# Altium schematic symbol library PTC Resettable Fuses.SchLib: 1 symbol
Pins are listed as number, name and electrical type; pins without a type are passive.

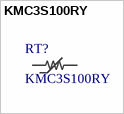
[diagram p0: symbol KMC3S100RY]

## KMC3S100RY
designator RT?
THERMISTOR PTC RESETTABLE FUSE 1206 1A 6V SMT; Manufacturer: THINKING; Designed: Ferdi; Time - Trip (Sec): 300ms; Current (Max): 100A; Current - Trip: 1.8A; Resistance (Max): 210m Ohms; Resistance (Min): 65m Ohms; Package / Case: 1206 (3216 Metric); Mounting Type: SMT; Packaging: TAPE&REEL; Rohs: ROHS; Operating Temperature: -40°C~+85°C; Dimension (mm): 3.20x1.60; Voltage (Max): 6V; Current - Hold: 1A; ComponentLink1Description: DataSheet; ComponentLink1URL: https://cdn.ozdisan.com/ETicaret_Dosya/490833_3550043.pdf
footprint PTCF1206 (PTC Fuse 1206 Package)
pins: 1, 2